# EAGLE library part MCP1826 (library 0_soofa_library)
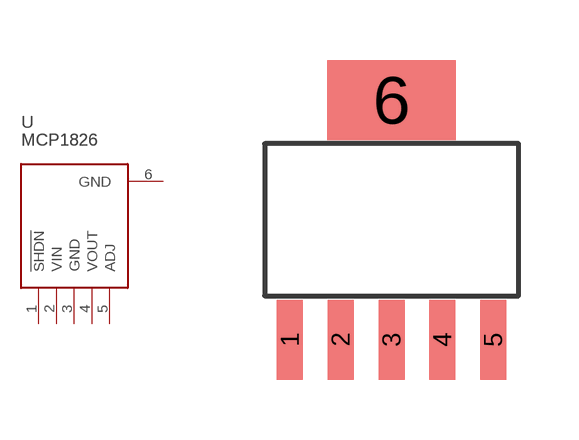
[diagram p13: symbol with the pads of SOT223-5; footprint SOT223-5]

Designator prefix -

## MCP1826  [SOT223-5]
1  !SHDN
2  VIN
3  GND
4  VOUT
5  ADJ
6  GND

## Footprint SOT223-5 (pad centres in mm)
smd 0.65 x 2: 1 -2.54,-3; 2 -1.27,-3; 3 0,-3; 4 1.27,-3; 5 2.54,-3
smd 3.2 x 2: 6 0,3